# Altium schematic symbol library ic.SchLib: 9 symbols
Pins are listed as number, name and electrical type; pins without a type are passive.

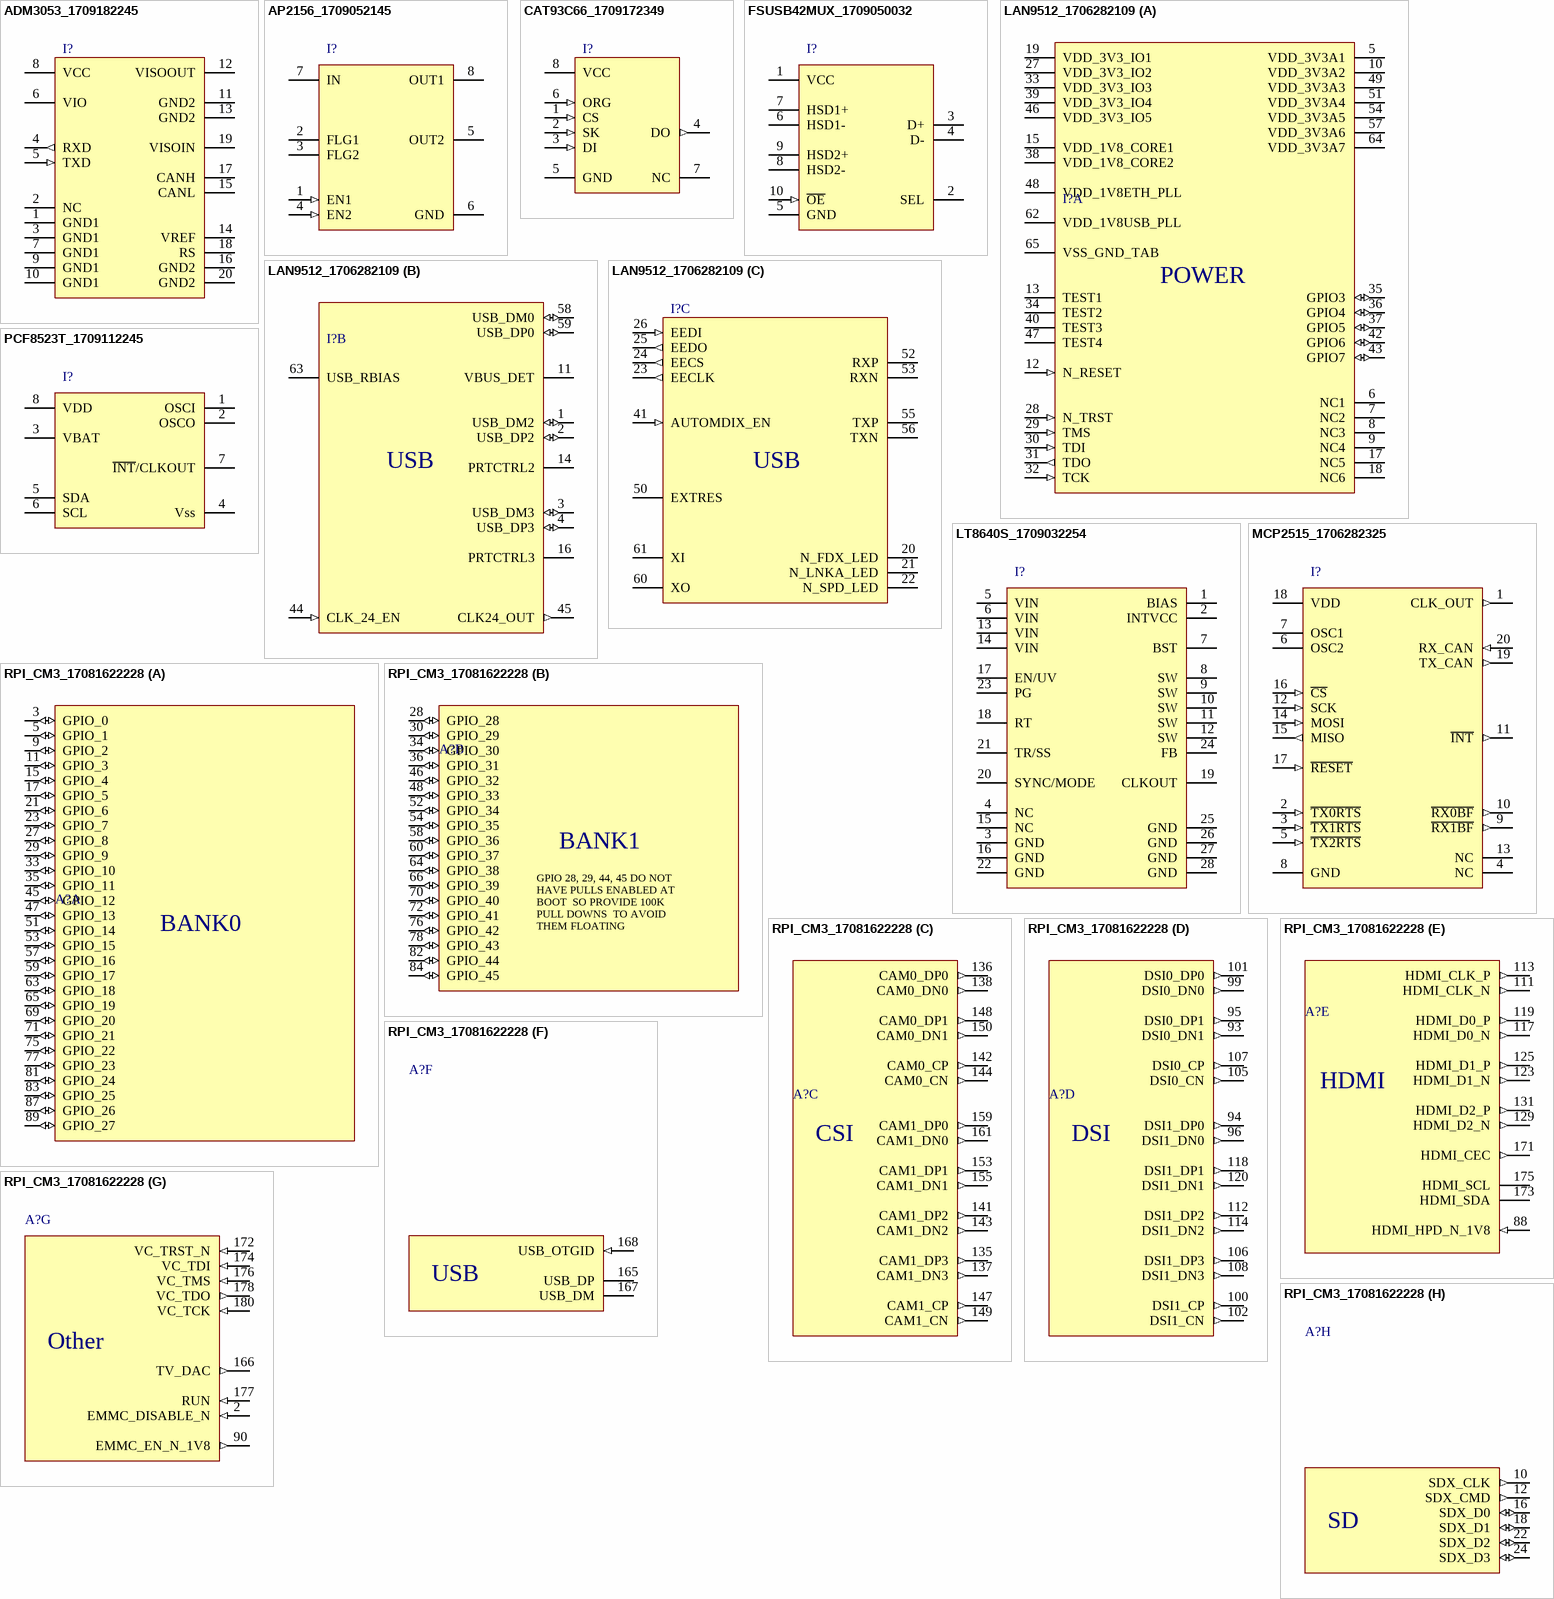
[diagram p0: symbols ADM3053_1709182245 to RPI_CM3_17081622228]

## ADM3053_1709182245
designator I?
=Description
pins: 1 GND1 (power), 2 NC (power), 3 GND1 (power), 4 RXD (out), 5 TXD (in), 6 VIO (power), 7 GND1 (power), 8 VCC (power), 9 GND1 (power), 10 GND1 (power), 11 GND2 (power), 12 VISOOUT (power), 13 GND2 (power), 14 VREF, 15 CANL, 16 GND2 (power), 17 CANH, 18 RS, 19 VISOIN, 20 GND2 (power)

## AP2156_1709052145
designator I?
=Description
pins: 1 EN1 (in), 2 FLG1, 3 FLG2, 4 EN2 (in), 5 OUT2, 6 GND (power), 7 IN, 8 OUT1

## CAT93C66_1709172349
designator I?
=Description
pins: 1 CS (in), 2 SK (in), 3 DI (in), 4 DO (out), 5 GND (power), 6 ORG (in), 7 NC, 8 VCC (power)

## FSUSB42MUX_1709050032
designator I?
=Description
pins: 1 VCC, 2 SEL, 3 D+, 4 D-, 5 GND (power), 6 HSD1-, 7 HSD1+, 8 HSD2-, 9 HSD2+, 10 ~{OE} (in)

## LAN9512_1706282109
designator I?
=Description
part A pins: 5 VDD_3V3A1 (power), 6 NC1, 7 NC2, 8 NC3, 9 NC4, 10 VDD_3V3A2 (power), 12 N_RESET (in), 13 TEST1, 15 VDD_1V8_CORE1 (power), 17 NC5, 18 NC6, 19 VDD_3V3_IO1 (power), 27 VDD_3V3_IO2 (power), 28 N_TRST (in), 29 TMS (in), 30 TDI (in), 31 TDO (out), 32 TCK (in), 33 VDD_3V3_IO3 (power), 34 TEST2, 35 GPIO3 (io), 36 GPIO4 (io), 37 GPIO5 (io), 38 VDD_1V8_CORE2 (power), 39 VDD_3V3_IO4 (power), 40 TEST3, 42 GPIO6 (io), 43 GPIO7 (io), 46 VDD_3V3_IO5 (power), 47 TEST4, 48 VDD_1V8ETH_PLL (power), 49 VDD_3V3A3 (power), 51 VDD_3V3A4 (power), 54 VDD_3V3A5 (power), 57 VDD_3V3A6 (power), 62 VDD_1V8USB_PLL (power), 64 VDD_3V3A7 (power), 65 VSS_GND_TAB (power)
part B pins: 1 USB_DM2 (io), 2 USB_DP2 (io), 3 USB_DM3 (io), 4 USB_DP3 (io), 11 VBUS_DET, 14 PRTCTRL2, 16 PRTCTRL3, 44 CLK_24_EN (in), 45 CLK24_OUT (out), 58 USB_DM0 (io), 59 USB_DP0 (io), 63 USB_RBIAS
part C pins: 20 N_FDX_LED, 21 N_LNKA_LED, 22 N_SPD_LED, 23 EECLK (out), 24 EECS (out), 25 EEDO (out), 26 EEDI (in), 41 AUTOMDIX_EN (in), 50 EXTRES, 52 RXP, 53 RXN, 55 TXP, 56 TXN, 60 XO, 61 XI
part A text: POWER
part B text: USB
part C text: USB

## LT8640S_1709032254
designator I?
=Description
pins: 1 BIAS, 2 INTVCC, 3 GND (power), 4 NC, 5 VIN (power), 6 VIN (power), 7 BST, 8 SW, 9 SW, 10 SW, 11 SW, 12 SW, 13 VIN (power), 14 VIN (power), 15 NC, 16 GND (power), 17 EN/UV, 18 RT, 19 CLKOUT, 20 SYNC/MODE, 21 TR/SS, 22 GND (power), 23 PG, 24 FB, 25 GND (power), 26 GND (power), 27 GND (power), 28 GND (power)

## MCP2515_1706282325
designator I?
=Description
pins: 1 CLK_OUT (out), 2 ~{TX0RTS} (in), 3 ~{TX1RTS} (in), 4 NC, 5 ~{TX2RTS} (in), 6 OSC2, 7 OSC1, 8 GND (power), 9 ~{RX1BF} (out), 10 ~{RX0BF} (out), 11 ~{INT} (out), 12 SCK (in), 13 NC, 14 MOSI (in), 15 MISO (out), 16 ~{CS} (in), 17 ~{RESET} (in), 18 VDD, 19 TX_CAN (out), 20 RX_CAN (in)

## PCF8523T_1709112245
designator I?
=Description
pins: 1 OSCI, 2 OSCO, 3 VBAT, 4 Vss (power), 5 SDA (oc), 6 SCL (oc), 7 ~{INT}/CLKOUT, 8 VDD (power)

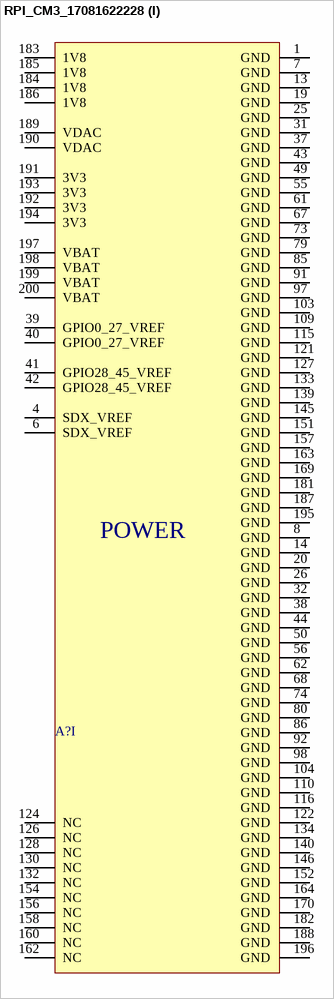
[diagram p1: symbol RPI_CM3_17081622228]

## RPI_CM3_17081622228
designator A?
=Description
part A pins: 3 GPIO_0 (io), 5 GPIO_1 (io), 9 GPIO_2 (io), 11 GPIO_3 (io), 15 GPIO_4 (io), 17 GPIO_5 (io), 21 GPIO_6 (io), 23 GPIO_7 (io), 27 GPIO_8 (io), 29 GPIO_9 (io), 33 GPIO_10 (io), 35 GPIO_11 (io), 45 GPIO_12 (io), 47 GPIO_13 (io), 51 GPIO_14 (io), 53 GPIO_15 (io), 57 GPIO_16 (io), 59 GPIO_17 (io), 63 GPIO_18 (io), 65 GPIO_19 (io), 69 GPIO_20 (io), 71 GPIO_21 (io), 75 GPIO_22 (io), 77 GPIO_23 (io), 81 GPIO_24 (io), 83 GPIO_25 (io), 87 GPIO_26 (io), 89 GPIO_27 (io)
part B pins: 28 GPIO_28 (io), 30 GPIO_29 (io), 34 GPIO_30 (io), 36 GPIO_31 (io), 46 GPIO_32 (io), 48 GPIO_33 (io), 52 GPIO_34 (io), 54 GPIO_35 (io), 58 GPIO_36 (io), 60 GPIO_37 (io), 64 GPIO_38 (io), 66 GPIO_39 (io), 70 GPIO_40 (io), 72 GPIO_41 (io), 76 GPIO_42 (io), 78 GPIO_43 (io), 82 GPIO_44 (io), 84 GPIO_45 (io)
part C pins: 135 CAM1_DP3 (out), 136 CAM0_DP0 (out), 137 CAM1_DN3 (out), 138 CAM0_DN0 (out), 141 CAM1_DP2 (out), 142 CAM0_CP (out), 143 CAM1_DN2 (out), 144 CAM0_CN (out), 147 CAM1_CP (out), 148 CAM0_DP1 (out), 149 CAM1_CN (out), 150 CAM0_DN1 (out), 153 CAM1_DP1 (out), 155 CAM1_DN1 (out), 159 CAM1_DP0 (out), 161 CAM1_DN0 (out)
part D pins: 93 DSI0_DN1 (out), 94 DSI1_DP0 (out), 95 DSI0_DP1 (out), 96 DSI1_DN0 (out), 99 DSI0_DN0 (out), 100 DSI1_CP (out), 101 DSI0_DP0 (out), 102 DSI1_CN (out), 105 DSI0_CN (out), 106 DSI1_DP3 (out), 107 DSI0_CP (out), 108 DSI1_DN3 (out), 112 DSI1_DP2 (out), 114 DSI1_DN2 (out), 118 DSI1_DP1 (out), 120 DSI1_DN1 (out)
part E pins: 88 HDMI_HPD_N_1V8 (in), 111 HDMI_CLK_N (out), 113 HDMI_CLK_P (out), 117 HDMI_D0_N (out), 119 HDMI_D0_P (out), 123 HDMI_D1_N (out), 125 HDMI_D1_P (out), 129 HDMI_D2_N (out), 131 HDMI_D2_P (out), 171 HDMI_CEC (out), 173 HDMI_SDA (oc), 175 HDMI_SCL (oc)
part F pins: 165 USB_DP, 167 USB_DM, 168 USB_OTGID (in)
part G pins: 2 EMMC_DISABLE_N (in), 90 EMMC_EN_N_1V8 (out), 166 TV_DAC (out), 172 VC_TRST_N (in), 174 VC_TDI (in), 176 VC_TMS (in), 177 RUN (in), 178 VC_TDO (out), 180 VC_TCK (in)
part H pins: 10 SDX_CLK (out), 12 SDX_CMD (out), 16 SDX_D0 (io), 18 SDX_D1 (io), 22 SDX_D2 (io), 24 SDX_D3 (io)
part I pins: 1 GND (power), 4 SDX_VREF (power), 6 SDX_VREF (power), 7 GND (power), 8 GND (power), 13 GND (power), 14 GND (power), 19 GND (power), 20 GND (power), 25 GND (power), 26 GND (power), 31 GND (power), 32 GND (power), 37 GND (power), 38 GND (power), 39 GPIO0_27_VREF (power), 40 GPIO0_27_VREF (power), 41 GPIO28_45_VREF (power), 42 GPIO28_45_VREF (power), 43 GND (power), 44 GND (power), 49 GND (power), 50 GND (power), 55 GND (power), 56 GND (power), 61 GND (power), 62 GND (power), 67 GND (power), 68 GND (power), 73 GND (power), 74 GND (power), 79 GND (power), 80 GND (power), 85 GND (power), 86 GND (power), 91 GND (power), 92 GND (power), 97 GND (power), 98 GND (power), 103 GND (power), 104 GND (power), 109 GND (power), 110 GND (power), 115 GND (power), 116 GND (power), 121 GND (power), 122 GND (power), 124 NC, 126 NC, 127 GND (power), 128 NC, 130 NC, 132 NC, 133 GND (power), 134 GND (power), 139 GND (power), 140 GND (power), 145 GND (power), 146 GND (power), 151 GND (power), 152 GND (power), 154 NC, 156 NC, 157 GND (power), 158 NC, 160 NC, 162 NC, 163 GND (power), 164 GND (power), 169 GND (power), 170 GND (power), 181 GND (power), 182 GND (power), 183 1V8 (power), 184 1V8 (power), 185 1V8 (power), 186 1V8 (power), 187 GND (power), 188 GND (power), 189 VDAC (power), 190 VDAC (power), 191 3V3 (power), 192 3V3 (power), 193 3V3 (power), 194 3V3 (power), 195 GND (power), 196 GND (power), 197 VBAT (power), 198 VBAT (power), 199 VBAT (power), 200 VBAT (power)
part A text: BANK0
part B text: BANK1; GPIO 28, 29, 44, 45 DO NOT  HAVE PULLS ENABLED AT BOOT  SO PROVIDE 100K PULL DOWNS  TO AVOID THEM FLOATING
part C text: CSI
part D text: DSI
part E text: HDMI
part F text: USB
part G text: Other
part H text: SD
part I text: POWER